# Altium schematic symbol library R-CRCW06031M00JNE.Schlib: 1 symbol
Pins are listed as number, name and electrical type; pins without a type are passive.

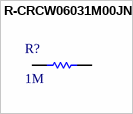
[diagram p0: symbol R-CRCW06031M00JNE]

## R-CRCW06031M00JNE
designator R?, comment 1M
Thick Film Resistors - SMD 1/10watt 1Mohms 5%
pins: 1, 2